# Altium footprint library Components.PcbLib: 28 footprints (part 1 of 2)
Each footprint in its own frame and in the unit in brackets; x right, y up, seen from the top. Pads: shape width x height; smd on the part's side, far side on the other; paste and mask are expansions set on the pad; w line width, h text height; cw(c..) or ccw(c..) is an arc to the next point about the centre after c.
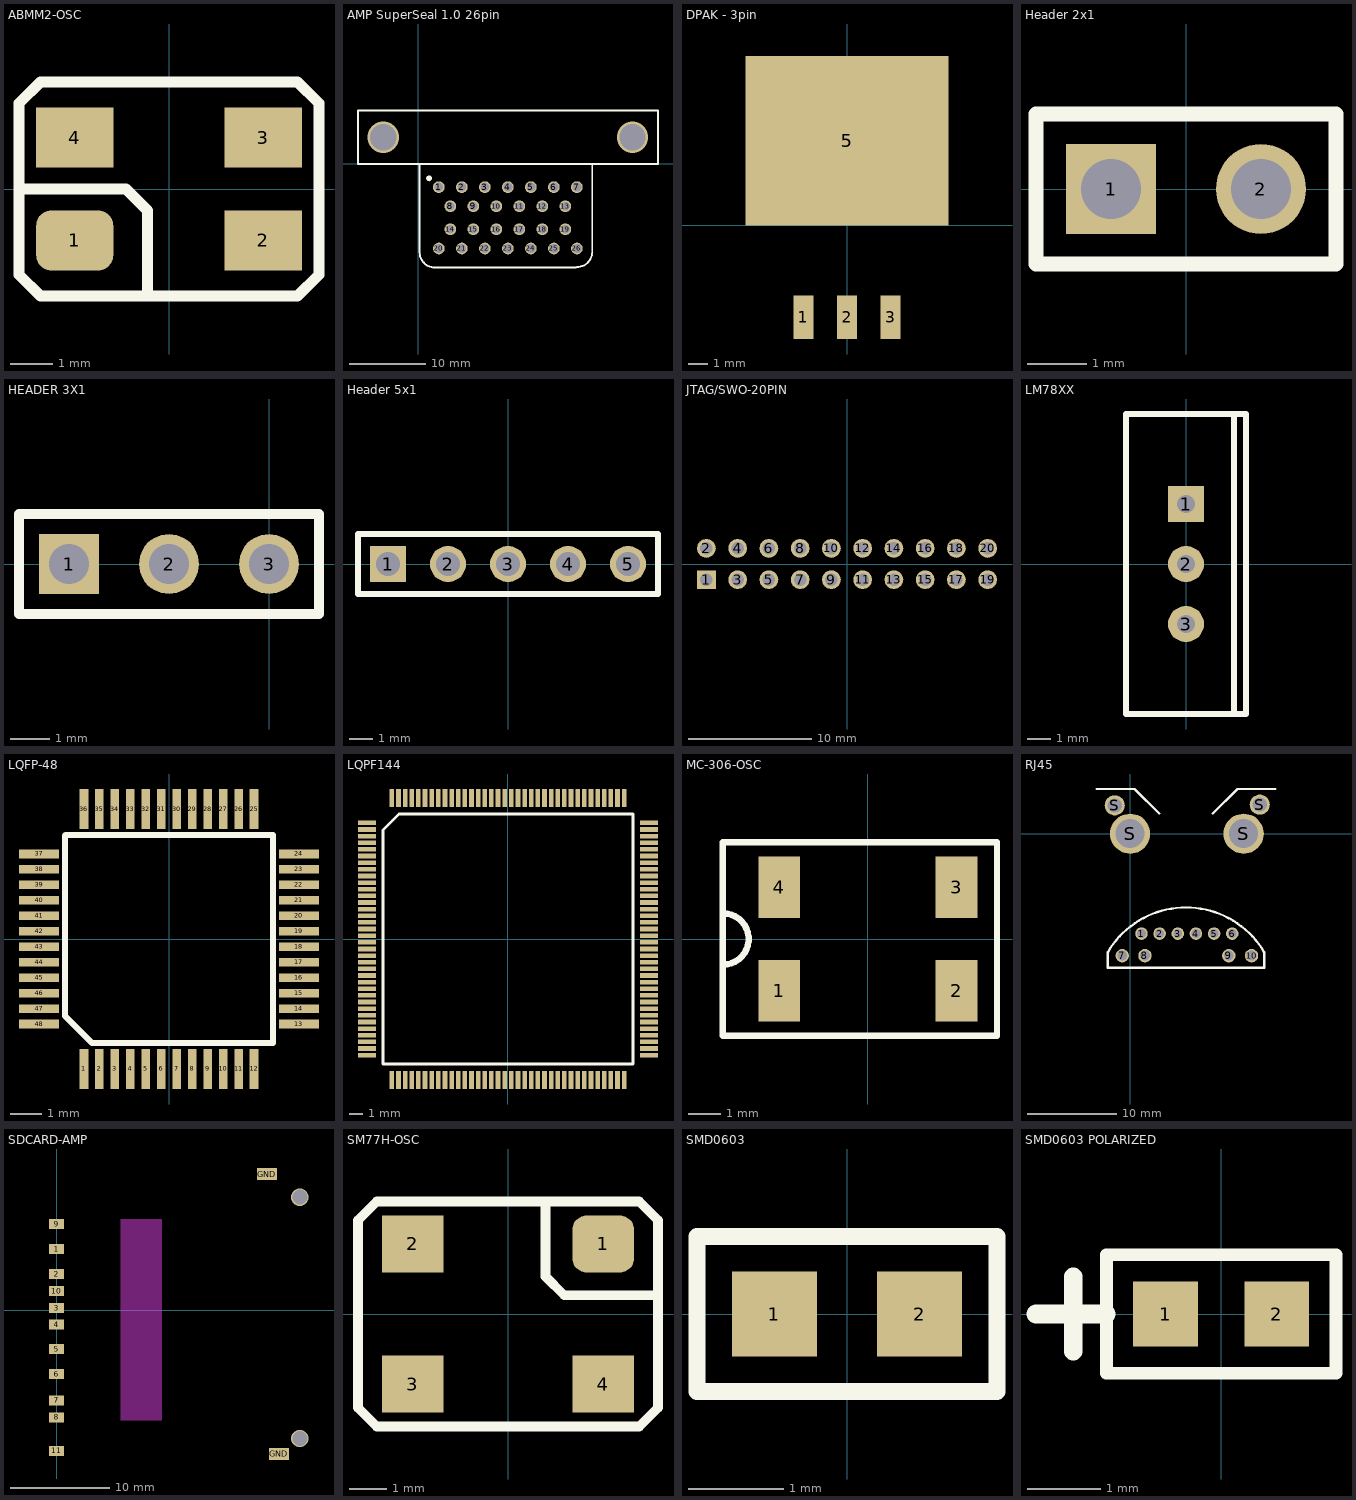
[diagram p0: the footprints below, top view; thin cyan lines are the x and y axes]

## ABMM2-OSC [mm]
pads (4):
  rrect50% 1.8x1.4 smd: 1(-2.2,-1.2)
  rect 1.8x1.4 smd: 2(2.2,-1.2) 3(2.2,1.2) 4(-2.2,1.2)
Top Overlay:
  lines w0.254: -3.5,0 -1,0 -0.5,-0.5 -0.5,-2.5 ; -3.5,-2 -3.5,2 -3,2.5 3,2.5 3.5,2 3.5,-2 3,-2.5 -3,-2.5 -3.5,-2

## AMP SuperSeal 1.0 26pin [mil]
pads (27):
  round 30 on Top Overlay: 0(55,-75)
  round 60 hole 45: 1(105,-120) 2(223.11,-120) 3(341.22,-120) 4(459.33,-120) 5(577.44,-120) 6(695.55,-120) 7(813.66,-120) 8(164.06,-218.43) 9(282.17,-218.43) 10(400.28,-218.43) 11(518.39,-218.43) 12(636.5,-218.43) 13(754.61,-218.43) 14(164.06,-336.54) 15(282.17,-336.54) 16(400.28,-336.54) 17(518.39,-336.54) 18(636.5,-336.54) 19(754.61,-336.54) 20(105,-434.96) 21(223.11,-434.96) 22(341.22,-434.96) 23(459.33,-434.96) 24(577.44,-434.96) 25(695.55,-434.96) 26(813.66,-434.96)
via 1099.1,135.9 diameter 160 hole 134
via -180.4,135.9 diameter 160 hole 134
Top Overlay:
  lines w10: 810,-533.39 85.31,-533.39 cw(c85.31,-454.65) 6.57,-454.65 6.57,-1.89 ; 813.25,-530.73 ccw(c813.25,-451.58) 892.4,-451.58 892.4,-1.89 ; 6.57,-1.89 892.4,-1.89 ; 6.57,-1.89 -310,-1.89 -310,274 0,274 1230,274 1230,-1.89 892.4,-1.89
3D body: height 1090.55, standoff -165.35, extent -317.56,-535 1237.56,902.01

## DPAK - 3pin [mil]
pads (4):
  rect 42x90 smd: 1(-90,-190) 2(0,-190) 3(90,-190)
  rect 420x350 smd: 5(0,175)

## Header 2x1 [mil]
pads (2):
  rect 60x60 hole 40: 1(-50,0)
  round 60 hole 40: 2(50,0)
Top Overlay:
  lines w10: -100,-50 100,-50 100,50 -100,50 -100,-50
3D body: height 373.85, standoff -125.98, extent -99.99,-49.99 100.01,50.01

## HEADER 3X1 [mil]
pads (3):
  rect 60x60 hole 40: 1(-200,0)
  round 60 hole 40: 2(-100,0) 3(0,0)
Top Overlay:
  lines w10: -250,-50 -250,50 50,50 50,-50 -250,-50
3D body: height 373.85, standoff -125.98, extent -250,-50 50,50

## Header 5x1 [mil]
pads (5):
  rect 60x60 hole 40: 1(-200,0)
  round 60 hole 40: 2(-100,0) 3(0,0) 4(100,0) 5(200,0)
Top Overlay:
  lines w10: -250,-50 -250,50 250,50 250,-50 -250,-50
3D body: height 373.85, standoff -125.98, extent -249.99,-50 250.01,50

## JTAG/SWO-20PIN [mil]
pads (20):
  rect 60x60 hole 40: 1(-450,-50)
  round 60 hole 40: 2(-450,50) 3(-350,-50) 4(-350,50) 5(-250,-50) 6(-250,50) 7(-150,-50) 8(-150,50) 9(-50,-50) 10(-50,50) 11(50,-50) 12(50,50) 13(150,-50) 14(150,50) 15(250,-50) 16(250,50) 17(350,-50) 18(350,50) 19(450,-50) 20(450,50)

## LM78XX [mil] "LM78XX Voltage Reg"
height 250
pads (3):
  rect 60x60 hole 30: 1(0,100)
  round 60 hole 30: 2(0,0) 3(0,-100)
Top Overlay:
  lines w10: 80,-250 80,250 ; -100,-250 -100,250 100,250 100,-250 -100,-250

## LQFP-48 [mm] "Specifically: PT (S-PQFP-G48)"
pads (48):
  rect 0.28x1.3 smd mask+0.051: 1(-2.75,-4.2) 2(-2.25,-4.2) 3(-1.75,-4.2) 4(-1.25,-4.2) 5(-0.75,-4.2) 6(-0.25,-4.2) 7(0.25,-4.2) 8(0.75,-4.2) 9(1.25,-4.2) 10(1.75,-4.2) 11(2.25,-4.2) 12(2.75,-4.2) 25(2.75,4.2) 26(2.25,4.2) 27(1.75,4.2) 28(1.25,4.2) 29(0.75,4.2) 30(0.25,4.2) 31(-0.25,4.2) 32(-0.75,4.2) 33(-1.25,4.2) 34(-1.75,4.2) 35(-2.25,4.2) 36(-2.75,4.2)
  rect 1.3x0.28 smd mask+0.051: 13(4.2,-2.75) 14(4.2,-2.25) 15(4.2,-1.75) 16(4.2,-1.25) 17(4.2,-0.75) 18(4.2,-0.25) 19(4.2,0.25) 20(4.2,0.75) 21(4.2,1.25) 22(4.2,1.75) 23(4.2,2.25) 24(4.2,2.75) 37(-4.2,2.75) 38(-4.2,2.25) 39(-4.2,1.75) 40(-4.2,1.25) 41(-4.2,0.75) 42(-4.2,0.25) 43(-4.2,-0.25) 44(-4.2,-0.75) 45(-4.2,-1.25) 46(-4.2,-1.75) 47(-4.2,-2.25) 48(-4.2,-2.75)
Top Overlay:
  lines w0.2: -3.365,3.35 -3.365,-2.485 -2.485,-3.365 3.365,-3.365 3.365,3.365 -3.35,3.365

## LQPF144 [mm]
pads (144):
  rect 0.35x1.35 smd mask+0.025: 1(-8.75,-10.625) 2(-8.25,-10.625) 3(-7.75,-10.625) 4(-7.25,-10.625) 5(-6.75,-10.625) 6(-6.25,-10.625) 7(-5.75,-10.625) 8(-5.25,-10.625) 9(-4.75,-10.625) 10(-4.25,-10.625) 11(-3.75,-10.625) 12(-3.25,-10.625) 13(-2.75,-10.625) 14(-2.25,-10.625) 15(-1.75,-10.625) 16(-1.25,-10.625) 17(-0.75,-10.625) 18(-0.25,-10.625) 19(0.25,-10.625) 20(0.75,-10.625) 21(1.25,-10.625) 22(1.75,-10.625) 23(2.25,-10.625) 24(2.75,-10.625) 25(3.25,-10.625) 26(3.75,-10.625) 27(4.25,-10.625) 28(4.75,-10.625) 29(5.25,-10.625) 30(5.75,-10.625) 31(6.25,-10.625) 32(6.75,-10.625) 33(7.25,-10.625) 34(7.75,-10.625) 35(8.25,-10.625) 36(8.75,-10.625) 73(8.75,10.625) 74(8.25,10.625) 75(7.75,10.625) 76(7.25,10.625) 77(6.75,10.625) 78(6.25,10.625) 79(5.75,10.625) 80(5.25,10.625) 81(4.75,10.625) 82(4.25,10.625) 83(3.75,10.625) 84(3.25,10.625) 85(2.75,10.625) 86(2.25,10.625) 87(1.75,10.625) 88(1.25,10.625) 89(0.75,10.625) 90(0.25,10.625) 91(-0.25,10.625) 92(-0.75,10.625) 93(-1.25,10.625) 94(-1.75,10.625) 95(-2.25,10.625) 96(-2.75,10.625) 97(-3.25,10.625) 98(-3.75,10.625) 99(-4.25,10.625) 100(-4.75,10.625) 101(-5.25,10.625) 102(-5.75,10.625) 103(-6.25,10.625) 104(-6.75,10.625) 105(-7.25,10.625) 106(-7.75,10.625) 107(-8.25,10.625) 108(-8.75,10.625)
  rect 1.35x0.35 smd mask+0.025: 37(10.625,-8.75) 38(10.625,-8.25) 39(10.625,-7.75) 40(10.625,-7.25) 41(10.625,-6.75) 42(10.625,-6.25) 43(10.625,-5.75) 44(10.625,-5.25) 45(10.625,-4.75) 46(10.625,-4.25) 47(10.625,-3.75) 48(10.625,-3.25) 49(10.625,-2.75) 50(10.625,-2.25) 51(10.625,-1.75) 52(10.625,-1.25) 53(10.625,-0.75) 54(10.625,-0.25) 55(10.625,0.25) 56(10.625,0.75) 57(10.625,1.25) 58(10.625,1.75) 59(10.625,2.25) 60(10.625,2.75) 61(10.625,3.25) 62(10.625,3.75) 63(10.625,4.25) 64(10.625,4.75) 65(10.625,5.25) 66(10.625,5.75) 67(10.625,6.25) 68(10.625,6.75) 69(10.625,7.25) 70(10.625,7.75) 71(10.625,8.25) 72(10.625,8.75) 109(-10.625,8.75) 110(-10.625,8.25) 111(-10.625,7.75) 112(-10.625,7.25) 113(-10.625,6.75) 114(-10.625,6.25) 115(-10.625,5.75) 116(-10.625,5.25) 117(-10.625,4.75) 118(-10.625,4.25) 119(-10.625,3.75) 120(-10.625,3.25) 121(-10.625,2.75) 122(-10.625,2.25) 123(-10.625,1.75) 124(-10.625,1.25) 125(-10.625,0.75) 126(-10.625,0.25) 127(-10.625,-0.25) 128(-10.625,-0.75) 129(-10.625,-1.25) 130(-10.625,-1.75) 131(-10.625,-2.25) 132(-10.625,-2.75) 133(-10.625,-3.25) 134(-10.625,-3.75) 135(-10.625,-4.25) 136(-10.625,-4.75) 137(-10.625,-5.25) 138(-10.625,-5.75) 139(-10.625,-6.25) 140(-10.625,-6.75) 141(-10.625,-7.25) 142(-10.625,-7.75) 143(-10.625,-8.25) 144(-10.625,-8.75)
Top Overlay:
  lines w0.2: -9.415,-9.415 9.415,-9.415 9.415,9.415 -8.205,9.415 -9.415,8.205 -9.415,-9.415

## MC-306-OSC [mm]
pads (4):
  rect 1.3x1.9 smd: 1(-2.75,-1.6) 2(2.75,-1.6) 3(2.75,1.6) 4(-2.75,1.6)
Top Overlay:
  lines w0.2: -4.5,-0.8 ccw(c-4.5,0) -4.5,0.8 ; -4.5,-3 -4.5,3 4,3 4,-3 -4.5,-3

## RJ45 [mm]
pads (14):
  round 1.4 hole 1 mask+0.051: 1(1.27,-11.17) 2(3.3,-11.17) 3(5.33,-11.17) 4(7.36,-11.17) 5(9.39,-11.17) 6(11.42,-11.17)
  round 1.5 hole 1.1 mask+0.051: 7(-0.88,-13.64) 8(1.66,-13.64) 9(11.04,-13.64) 10(13.58,-13.64)
  round 2.25 hole 1.57: S(-1.72,3.17) S(14.5,3.25)
  round 4.5 hole 3.25: S(0,0) S(12.7,0)
Top Overlay:
  lines w0.254: -3.75,5 0.5,5 3.25,2.25 ; 9.25,2.25 12,5 16.25,5 ; -2.5,-15 -2.5,-13.25 cw(c6.25,-18.4) 15,-13.25 15,-15 -2.5,-15

## SDCARD-AMP [mm] "Amphenol 101003136802"
pads (13):
  rect 1.5x1 smd: 1(0,6.1) 2(0,3.6) 3(0,0.2) 4(0,-1.45) 5(0,-3.9) 6(0,-6.4) 7(0,-9.03) 8(0,-10.73) 9(0,8.6) 10(0,1.9) 11(0,-14.08)
  rect 2x1.2 smd: GND(21.01,13.6) GND(22.21,-14.4)
via 24.31,-12.85 diameter 1.75 hole 1.5
via 24.31,11.3 diameter 1.75 hole 1.5
Keep-Out Layer:
  region: 6.4,9.1 10.51,9.1 10.51,-11.03 6.4,-11.03

## SM77H-OSC [mil]
pads (4):
  rrect50% 65x60 smd: 1(100,73.5)
  rect 65x60 smd: 2(-100,73.5) 3(-100,-73.5) 4(100,-73.5)
Top Overlay:
  lines w10: 39.37,118.11 39.37,39.37 59.06,19.68 157.48,19.68 ; -157.48,-98.43 -137.8,-118.11 137.8,-118.11 157.48,-98.43 157.48,98.43 137.8,118.11 -137.8,118.11 -157.48,98.43 -157.48,-98.43

## SMD0603 [mil]
pads (2):
  rect 35x35 smd: 1(-30,0) 2(30,0)
Top Overlay:
  lines w7: -62,-32 62,-32 62,32 -62,32 -62,2 -62,-32
3D body: height 17.72, standoff 0, extent -31.49,-15.75 31.5,15.76

## SMD0603 POLARIZED [mil]
pads (2):
  rect 35x35 smd: 1(-30,0) 2(30,0)
Top Overlay:
  lines w7: -62,0 -62,32 62,32 62,-32 -62,-32 -62,2
  lines w10: -100,0 -62,0 ; -80,-20 -80,20
3D body: height 17.72, standoff 0, extent -31.49,-15.75 31.5,15.76